# EAGLE library part BME280 (library bschulz)
BME280 - Combined Digital Humidity and Pressure Sensor Characteristics: Vcc: 1.8V ~ 3.3V Pressure Range: 300 ~ 1100 mBar Pressure Resolution: 0.0015 mBar, max Pressure Accuracy: relative ±0.12 mBar, abs ± 1 mBar Humidity Resolution: 0.008% RH, max Humidity Accuracy: ±3% RH Temperature Resolution: 0.01°C Temperature Accuracy: 0.5°C Operating Temperature: -40°C to 85°C Digikey: 828-1063-1-ND <https://www.digikey.com/product-detail/en/bosch-sensortec/BME280/828-1063-1-ND/6136314>
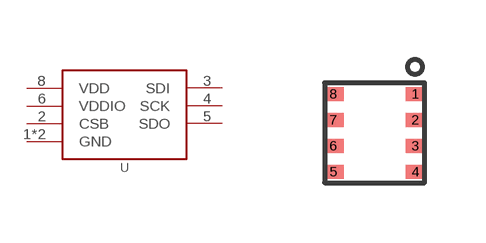
[diagram p56: symbol with the pads of BME280; footprint BME280]

Designator prefix U

## BME280 (DIGIKEY: 828-1063-1-ND; DISP: BME280; MF: Bosch; MPN: BME280)  [BME280]
1  GND  pwr
2  CSB
3  SDI
4  SCK
5  SDO
6  VDDIO
7  GND  pwr
8  VDD  pwr

## Footprint BME280 (pad centres in mm)
smd 0.5 x 0.35: 1 1.025,0.975; 2 1.025,0.325; 3 1.025,-0.325; 4 1.025,-0.975; 5 -1.025,-0.975; 6 -1.025,-0.325; 7 -1.025,0.325; 8 -1.025,0.975